# Altium schematic symbol library SCH - POWER - LINEAR VREG - TI LP2954D.SchLib: 1 symbol
Pins are listed as number, name and electrical type; pins without a type are passive.

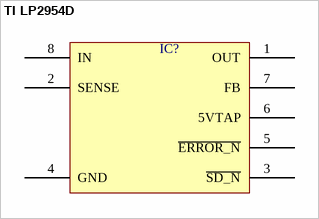
[diagram p0: symbol TI LP2954D]

## TI LP2954D
designator IC?  (value not drawn)
pins: 1 OUT, 2 SENSE, 3 ~{SD_N}, 4 GND, 5 ~{ERROR_N}, 6 5VTAP, 7 FB, 8 IN